# EAGLE library part HM-11-BLUETOOTH (library me)
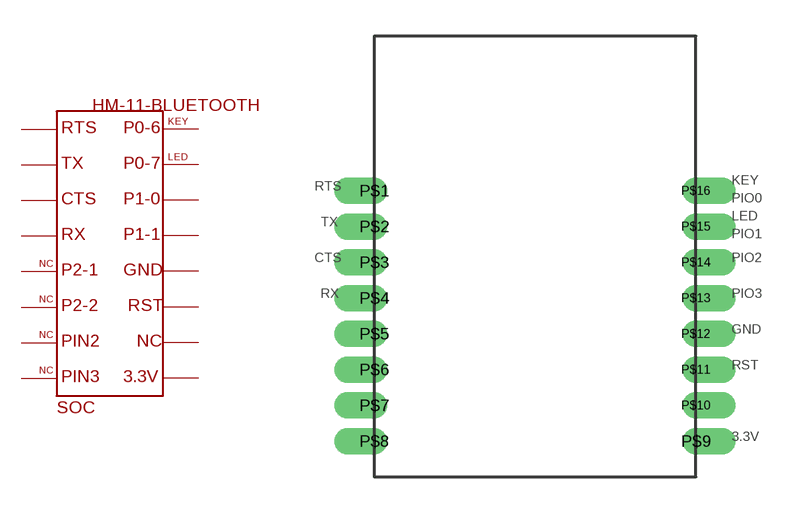
[diagram p18: symbol with the pads of HM-11; footprint HM-11]

Designator prefix SOC

## HM-11-BLUETOOTH  [HM-11]
P$1  P$1
P$2  P$2
P$3  P$3
P$4  P$4
P$5  P$5
P$6  P$6
P$7  P$7
P$8  P$8
P$9  P$9
P$10  P$10
P$11  P$11
P$12  P$12
P$13  P$13
P$14  P$14
P$15  P$15
P$16  P$16

## Footprint HM-11 (pad centres in mm)
drill 0.6 pad 0.9 offset: P$1 -6.75,2.75; P$2 -6.75,1.25; P$3 -6.75,-0.25; P$4 -6.75,-1.75; P$5 -6.75,-3.25; P$6 -6.75,-4.75; P$7 -6.75,-6.25; P$8 -6.75,-7.75; P$9 6.75,-7.75; P$10 6.75,-6.25; P$11 6.75,-4.75; P$12 6.75,-3.25; P$13 6.75,-1.75; P$14 6.75,-0.25; P$15 6.75,1.25; P$16 6.75,2.75